# Altium footprint library SparkFun-RF.PCBLIB: 42 footprints (part 2 of 3)
Each footprint in its own frame and in the unit in brackets; x right, y up, seen from the top. Pads: shape width x height; smd on the part's side, far side on the other; paste and mask are expansions set on the pad; w line width, h text height; cw(c..) or ccw(c..) is an arc to the next point about the centre after c.
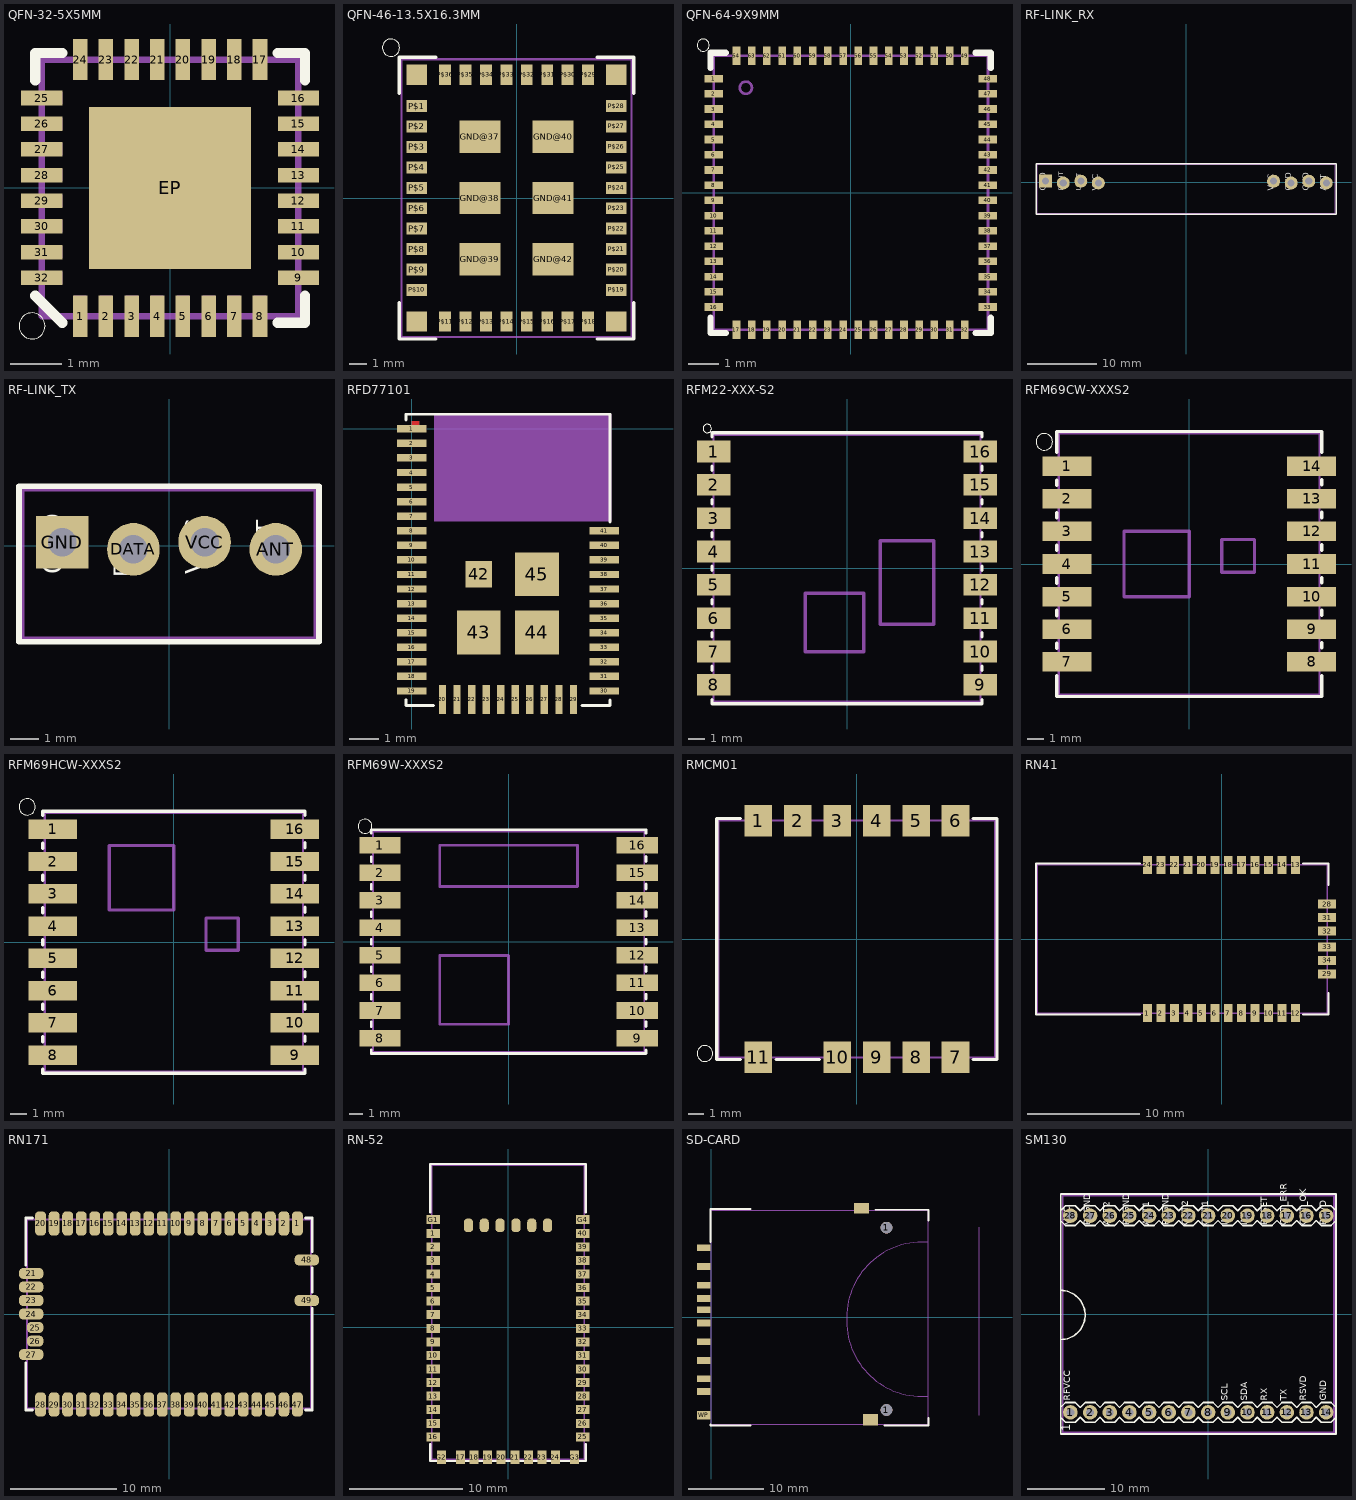
[diagram p1: the footprints below, top view; thin cyan lines are the x and y axes]

## QFN-32-5X5MM [mil]
pads (33):
  rect 11.2x31.5 smd: 1(-68.9,-98.43) 2(-49.21,-98.43) 3(-29.53,-98.43) 4(-9.84,-98.43) 5(9.84,-98.43) 6(29.53,-98.43) 7(49.21,-98.43) 8(68.9,-98.43) 17(68.9,98.43) 18(49.21,98.43) 19(29.53,98.43) 20(9.84,98.43) 21(-9.84,98.43) 22(-29.53,98.43) 23(-49.21,98.43) 24(-68.9,98.43)
  rect 31.5x11.2 smd: 9(98.43,-68.9) 10(98.43,-49.21) 11(98.43,-29.53) 12(98.43,-9.84) 13(98.43,9.84) 14(98.43,29.53) 15(98.43,49.21) 16(98.43,68.9) 25(-98.43,68.9) 26(-98.43,49.21) 27(-98.43,29.53) 28(-98.43,9.84) 29(-98.43,-9.84) 30(-98.43,-29.53) 31(-98.43,-49.21) 32(-98.43,-68.9)
  rect 124.02x124.02 smd: EP(0,0)
Top Overlay:
  circle w0: c-105.87,-105.87 r10
  lines w8: -103.43,-82.68 -82.68,-103.43 ; -103.43,82.68 -103.43,103.43 -82.68,103.43 ; 82.68,-103.43 103.43,-103.43 103.43,-82.68 ; 82.68,103.43 103.43,103.43 103.43,82.68
Top Paste:
  rectangle: -57.09,5.91 -5.91,57.09
  region: 5.91,57.09 5.91,5.91 57.09,5.91 57.09,57.09
  region: -5.91,-57.09 -5.91,-5.91 -57.09,-5.91 -57.09,-57.09
  region: 57.09,-5.91 5.91,-5.91 5.91,-57.09 57.09,-57.09
Mechanical 16:
  rectangle: -98.43,5.12 -82.68,14.57
  rectangle: -98.43,-14.57 -82.68,-5.12
  rectangle: -98.43,-34.25 -82.68,-24.8
  rectangle: -98.43,-53.94 -82.68,-44.49
  rectangle: -98.43,-73.62 -82.68,-64.17
  rectangle: -98.43,24.8 -82.68,34.25
  rectangle: -98.43,44.49 -82.68,53.94
  rectangle: -98.43,64.17 -82.68,73.62
  region: 5.12,98.43 5.12,82.68 14.57,82.68 14.57,98.43
  region: -14.57,98.43 -14.57,82.68 -5.12,82.68 -5.12,98.43
  region: -34.25,98.43 -34.25,82.68 -24.8,82.68 -24.8,98.43
  region: -53.94,98.43 -53.94,82.68 -44.49,82.68 -44.49,98.43
  region: -73.62,98.43 -73.62,82.68 -64.17,82.68 -64.17,98.43
  region: 24.8,98.43 24.8,82.68 34.25,82.68 34.25,98.43
  region: 44.49,98.43 44.49,82.68 53.94,82.68 53.94,98.43
  region: 64.17,98.43 64.17,82.68 73.62,82.68 73.62,98.43
  region: -5.12,-98.43 -5.12,-82.68 -14.57,-82.68 -14.57,-98.43
  region: 14.57,-98.43 14.57,-82.68 5.12,-82.68 5.12,-98.43
  region: 34.25,-98.43 34.25,-82.68 24.8,-82.68 24.8,-98.43
  region: 53.94,-98.43 53.94,-82.68 44.49,-82.68 44.49,-98.43
  region: 73.62,-98.43 73.62,-82.68 64.17,-82.68 64.17,-98.43
  region: -24.8,-98.43 -24.8,-82.68 -34.25,-82.68 -34.25,-98.43
  region: -44.49,-98.43 -44.49,-82.68 -53.94,-82.68 -53.94,-98.43
  region: -64.17,-98.43 -64.17,-82.68 -73.62,-82.68 -73.62,-98.43
  region: 98.43,-5.12 82.68,-5.12 82.68,-14.57 98.43,-14.57
  region: 98.43,14.57 82.68,14.57 82.68,5.12 98.43,5.12
  region: 98.43,34.25 82.68,34.25 82.68,24.8 98.43,24.8
  region: 98.43,53.94 82.68,53.94 82.68,44.49 98.43,44.49
  region: 98.43,73.62 82.68,73.62 82.68,64.17 98.43,64.17
  region: 98.43,-24.8 82.68,-24.8 82.68,-34.25 98.43,-34.25
  region: 98.43,-44.49 82.68,-44.49 82.68,-53.94 98.43,-53.94
  region: 98.43,-64.17 82.68,-64.17 82.68,-73.62 98.43,-73.62
  lines w5: -98.43,-98.43 98.43,-98.43 98.43,98.43 -98.43,98.43 -98.43,-98.43

## QFN-46-13.5X16.3MM [mm]
pads (46):
  rect 2.4x1.9 smd: GND@37(-2.15,3.6) GND@38(-2.15,0) GND@39(-2.15,-3.6) GND@40(2.15,3.6) GND@41(2.15,0) GND@42(2.15,-3.6)
  rect 1.2x1.2 smd: GND@43(-5.85,7.25) GND@44(-5.85,-7.25) GND@45(5.85,-7.25) GND@46(5.85,7.25)
  rect 1.2x0.7 smd: P$1(-5.85,5.4) P$2(-5.85,4.2) P$3(-5.85,3) P$4(-5.85,1.8) P$5(-5.85,0.6) P$6(-5.85,-0.6) P$7(-5.85,-1.8) P$8(-5.85,-3) P$9(-5.85,-4.2) P$10(-5.85,-5.4) P$19(5.85,-5.4) P$20(5.85,-4.2) P$21(5.85,-3) P$22(5.85,-1.8) P$23(5.85,-0.6) P$24(5.85,0.6) P$25(5.85,1.8) P$26(5.85,3) P$27(5.85,4.2) P$28(5.85,5.4)
  rect 0.7x1.2 smd: P$11(-4.2,-7.25) P$12(-3,-7.25) P$13(-1.8,-7.25) P$14(-0.6,-7.25) P$15(0.6,-7.25) P$16(1.8,-7.25) P$17(3,-7.25) P$18(4.2,-7.25) P$29(4.2,7.25) P$30(3,7.25) P$31(1.8,7.25) P$32(0.6,7.25) P$33(-0.6,7.25) P$34(-1.8,7.25) P$35(-3,7.25) P$36(-4.2,7.25)
Top Overlay:
  circle w0: c-7.375,8.829 r0.508
  lines w0.203: -6.877,-6.15 -6.877,-8.277 -4.75,-8.277 ; -6.877,6.15 -6.877,8.277 -4.75,8.277 ; 4.75,-8.277 6.877,-8.277 6.877,-6.15 ; 4.75,8.277 6.877,8.277 6.877,6.15
Mechanical 16:
  lines w0.127: -6.75,-8.15 6.75,-8.15 6.75,8.15 -6.75,8.15 -6.75,-8.15

## QFN-64-9X9MM [mm]
pads (64):
  rect 0.6x0.25 smd: 1(-4.5,3.75) 2(-4.5,3.25) 3(-4.5,2.75) 4(-4.5,2.25) 5(-4.5,1.75) 6(-4.5,1.25) 7(-4.5,0.75) 8(-4.5,0.25) 9(-4.5,-0.25) 10(-4.5,-0.75) 11(-4.5,-1.25) 12(-4.5,-1.75) 13(-4.5,-2.25) 14(-4.5,-2.75) 15(-4.5,-3.25) 16(-4.5,-3.75) 33(4.5,-3.75) 34(4.5,-3.25) 35(4.5,-2.75) 36(4.5,-2.25) 37(4.5,-1.75) 38(4.5,-1.25) 39(4.5,-0.75) 40(4.5,-0.25) 41(4.5,0.25) 42(4.5,0.75) 43(4.5,1.25) 44(4.5,1.75) 45(4.5,2.25) 46(4.5,2.75) 47(4.5,3.25) 48(4.5,3.75)
  rect 0.25x0.6 smd: 17(-3.75,-4.5) 18(-3.25,-4.5) 19(-2.75,-4.5) 20(-2.25,-4.5) 21(-1.75,-4.5) 22(-1.25,-4.5) 23(-0.75,-4.5) 24(-0.25,-4.5) 25(0.25,-4.5) 26(0.75,-4.5) 27(1.25,-4.5) 28(1.75,-4.5) 29(2.25,-4.5) 30(2.75,-4.5) 31(3.25,-4.5) 32(3.75,-4.5) 49(3.75,4.5) 50(3.25,4.5) 51(2.75,4.5) 52(2.25,4.5) 53(1.75,4.5) 54(1.25,4.5) 55(0.75,4.5) 56(0.25,4.5) 57(-0.25,4.5) 58(-0.75,4.5) 59(-1.25,4.5) 60(-1.75,4.5) 61(-2.25,4.5) 62(-2.75,4.5) 63(-3.25,4.5) 64(-3.75,4.5)
Top Overlay:
  circle w0: c-4.842,4.85 r0.2
  lines w0.203: -4.6,-4.1 -4.6,-4.6 -4.1,-4.6 ; -4.6,4.1 -4.6,4.6 -4.1,4.6 ; 4.1,-4.6 4.6,-4.6 4.6,-4.1 ; 4.1,4.6 4.6,4.6 4.6,4.1
Mechanical 16:
  circle w0.09: c-3.442,3.45 r0.2
  lines w0.09: -4.492,-4.5 4.508,-4.5 4.508,4.5 -4.492,4.5 -4.492,-4.5

## RF-LINK_RX [mil]
pads (8):
  round 74 hole 40: +5V@1(-500,-5) +5V@2(500,5) ANT(800,-5) DATA@1(-700,-5) DATA@2(-600,5) GND@2(600,-5) GND@3(700,5)
  rect 74x74 hole 40: GND@1(-800,5)
Top Overlay:
  lines w8: -855.39,-182.17 855.39,-182.17 855.39,103.43 -855.39,103.43 -855.39,-182.17
  text "GND" at -800,-50 h34
  text "DOUT" at -700,-50 h27.2
  text "LOUT" at -600,-50 h27.2
  text "VCC" at -500,-50 h34
  text "VCC" at 500,-50 h34
  text "GND" at 600,-50 h34
  text "GND" at 700,-50 h34
  text "ANT" at 800,-50 h34
Mechanical 16:
  rectangle: -510,-10 -490,10
  rectangle: -610,-10 -590,10
  rectangle: -710,-10 -690,10
  rectangle: -810,-10 -790,10
  rectangle: 790,-10 810,10
  rectangle: 690,-10 710,10
  rectangle: 590,-10 610,10
  rectangle: 490,-10 510,10
  lines w5: -850.39,-177.17 -850.39,98.43 850.39,98.43 850.39,-177.17 -850.39,-177.17

## RF-LINK_TX [mil]
pads (4):
  round 74 hole 40: ANT(150,-5) DATA(-50,-5) VCC(50,5)
  rect 74x74 hole 40: GND(-150,5)
Top Overlay:
  lines w8: -210.71,-134.92 -210.71,83.74 210.71,83.74 210.71,-134.92 -210.71,-134.92
  text "GND" at -150,-40 h27.2
  text "DIN" at -50,-45 h27.2
  text "VCC" at 50,-40 h27.2
  text "ANT" at 150,-40 h27.2
Mechanical 16:
  rectangle: 140,-10 160,10
  rectangle: 40,-10 60,10
  rectangle: -60,-10 -40,10
  rectangle: -160,-10 -140,10
  lines w5: -205.71,-129.92 -205.71,78.74 205.71,78.74 205.71,-129.92 -205.71,-129.92

## RFD77101 [mm]
pads (45):
  rect 1x0.254 smd: 1(0,0) 2(0,-0.5) 3(0,-1) 4(0,-1.5) 5(0,-2) 6(0,-2.5) 7(0,-3) 8(0,-3.5) 9(0,-4) 10(0,-4.5) 11(0,-5) 12(0,-5.5) 13(0,-6) 14(0,-6.5) 15(0,-7) 16(0,-7.5) 17(0,-8) 18(0,-8.5) 19(0,-9) 30(6.61,-9) 31(6.61,-8.5) 32(6.61,-8) 33(6.61,-7.5) 34(6.61,-7) 35(6.61,-6.5) 36(6.61,-6) 37(6.61,-5.5) 38(6.61,-5) 39(6.61,-4.5) 40(6.61,-4) 41(6.61,-3.5)
  rect 0.254x1 smd: 20(1.055,-9.29) 21(1.555,-9.29) 22(2.055,-9.29) 23(2.555,-9.29) 24(3.055,-9.29) 25(3.555,-9.29) 26(4.055,-9.29) 27(4.555,-9.29) 28(5.055,-9.29) 29(5.555,-9.29)
  rect 0.9x0.9 smd: 42(2.3,-4.99)
  rect 1.5x1.5 smd: 43(2.3,-6.99) 44(4.3,-6.99) 45(4.3,-4.99)
Top Layer:
  region: 0,0 0.254,0 0.254,0.254 0,0.254
Top Overlay:
  lines w0.1: -0.195,-9.301 -0.195,-9.5 0.749,-9.5 ; -0.195,0.305 -0.195,0.5 6.805,0.5 6.805,-3.2 ; 5.851,-9.5 6.805,-9.5 6.805,-9.302
Top Paste:
  circle w0: c2.337,-4.953 r0.305
  circle w0: c4.293,-4.953 r0.305
  circle w0: c4.318,-6.985 r0.305
  circle w0: c2.286,-6.96 r0.305
Top Solder:
  region: 0,0 0.254,0 0.254,0.254 0,0.254
Mechanical 27:
  rectangle: 0.762,-3.175 6.858,0.508
Mechanical 28:
  rectangle: 0.762,-3.175 6.858,0.508

## RFM22-XXX-S2 [mm]
pads (16):
  rect 2x1.3 smd: 1(-8,7) 2(-8,5) 3(-8,3) 4(-8,1) 5(-8,-1) 6(-8,-3) 7(-8,-5) 8(-8,-7) 9(8,-7) 10(8,-5) 11(8,-3) 12(8,-1) 13(8,1) 14(8,3) 15(8,5) 16(8,7)
Top Overlay:
  circle w0: c-8.382,8.382 r0.254
  lines w0.203: -8.1,-8.127 8.1,-8.127 8.1,-7.875 ; -8.1,-8.125 -8.1,-7.873 ; -8.1,-6.125 -8.1,-5.873 ; -8.1,-4.125 -8.1,-3.873 ; -8.1,-2.125 -8.1,-1.873 ; -8.1,-0.125 -8.1,0.127 ; -8.1,1.875 -8.1,2.127 ; -8.1,3.875 -8.1,4.127 ; -8.1,5.875 -8.1,6.127 ; -8.1,7.875 -8.1,8.127 8.1,8.127 ; 8.1,-6.127 8.1,-5.875 ; 8.1,-4.127 8.1,-3.875 ; 8.1,-2.127 8.1,-1.875 ; 8.1,-0.127 8.1,0.125 ; 8.1,1.873 8.1,2.125 ; 8.1,3.873 8.1,4.125 ; 8.1,5.873 8.1,6.125 ; 8.1,7.873 8.1,8.125
Mechanical 16:
  lines w0.127: -8,-8 -8,8 8,8 8,-8 -8,-8
  lines w0.203: -2.5,-5 1,-5 1,-1.5 -2.5,-1.5 -2.5,-5 ; 2,-3.35 2,1.65 5.2,1.65 5.2,-3.35 2,-3.35
  text "Crystal" at 4,-3 h1.24
  text "IC" at -1.2,-3.6 h1.24

## RFM69CW-XXXS2 [mm]
pads (14):
  rect 3x1.2 smd: 1(-7.5,6) 2(-7.5,4) 3(-7.5,2) 4(-7.5,0) 5(-7.5,-2) 6(-7.5,-4) 7(-7.5,-6) 8(7.5,-6) 9(7.5,-4) 10(7.5,-2) 11(7.5,0) 12(7.5,2) 13(7.5,4) 14(7.5,6)
Top Overlay:
  circle w0: c-8.889,7.492 r0.508
  lines w0.203: -8.127,-6.859 -8.127,-8.127 8.127,-8.127 8.127,-6.859 ; -8.127,-5.174 -8.127,-4.844 ; -8.127,-3.174 -8.127,-2.844 ; -8.127,-1.174 -8.127,-0.844 ; -8.127,0.826 -8.127,1.156 ; -8.127,2.826 -8.127,3.156 ; -8.127,4.826 -8.127,5.156 ; -8.127,6.859 -8.127,8.127 8.127,8.127 8.127,6.859 ; 8.127,-5.156 8.127,-4.826 ; 8.127,-3.156 8.127,-2.826 ; 8.127,-1.156 8.127,-0.826 ; 8.127,0.844 8.127,1.174 ; 8.127,2.844 8.127,3.174 ; 8.127,4.844 8.127,5.174
Mechanical 16:
  lines w0.127: -8,-8 8,-8 8,8 -8,8 -8,-8
  lines w0.203: -4,-2 -4,2 0,2 0,-2 -4,-2 ; 2,-0.5 2,1.5 4,1.5 4,-0.5 2,-0.5
  text "1" at -5.485,5.35 h1.97

## RFM69HCW-XXXS2 [mm]
pads (16):
  rect 3x1.2 smd: 1(-7.5,7) 2(-7.5,5) 3(-7.5,3) 4(-7.5,1) 5(-7.5,-1) 6(-7.5,-3) 7(-7.5,-5) 8(-7.5,-7) 9(7.5,-7) 10(7.5,-5) 11(7.5,-3) 12(7.5,-1) 13(7.5,1) 14(7.5,3) 15(7.5,5) 16(7.5,7)
Top Overlay:
  circle w0: c-9.089,8.392 r0.508
  lines w0.203: -8.127,-7.859 -8.127,-8.127 8.127,-8.127 8.127,-7.859 ; -8.127,-6.174 -8.127,-5.844 ; -8.127,-4.174 -8.127,-3.844 ; -8.127,-2.174 -8.127,-1.844 ; -8.127,-0.174 -8.127,0.156 ; -8.127,1.826 -8.127,2.156 ; -8.127,3.826 -8.127,4.156 ; -8.127,5.826 -8.127,6.156 ; -8.127,7.859 -8.127,8.127 8.127,8.127 8.127,7.859 ; 8.127,-6.156 8.127,-5.826 ; 8.127,-4.156 8.127,-3.826 ; 8.127,-2.156 8.127,-1.826 ; 8.127,-0.156 8.127,0.174 ; 8.127,1.844 8.127,2.174 ; 8.127,3.844 8.127,4.174 ; 8.127,5.844 8.127,6.174
Mechanical 16:
  lines w0.127: -8,-8 8,-8 8,8 -8,8 -8,-8
  lines w0.203: -4,2 -4,6 0,6 0,2 -4,2 ; 2,-0.5 2,1.5 4,1.5 4,-0.5 2,-0.5
  text "1" at -5.485,5.35 h1.08

## RFM69W-XXXS2 [mm]
pads (16):
  rect 3x1.2 smd: 1(-9.35,7) 2(-9.35,5) 3(-9.35,3) 4(-9.35,1) 5(-9.35,-1) 6(-9.35,-3) 7(-9.35,-5) 8(-9.35,-7) 9(9.35,-7) 10(9.35,-5) 11(9.35,-3) 12(9.35,-1) 13(9.35,1) 14(9.35,3) 15(9.35,5) 16(9.35,7)
Top Overlay:
  circle w0: c-10.435,8.381 r0.508
  lines w0.203: -9.977,-7.875 -9.977,-8.127 9.977,-8.127 9.977,-7.875 ; -9.977,-6.183 -9.977,-5.828 ; -9.977,-4.183 -9.977,-3.828 ; -9.977,-2.183 -9.977,-1.828 ; -9.977,-0.183 -9.977,0.172 ; -9.977,1.817 -9.977,2.172 ; -9.977,3.817 -9.977,4.172 ; -9.977,5.817 -9.977,6.172 ; -9.977,7.875 -9.977,8.127 9.977,8.127 9.977,7.875 ; 9.977,-6.172 9.977,-5.817 ; 9.977,-4.172 9.977,-3.817 ; 9.977,-2.172 9.977,-1.817 ; 9.977,-0.172 9.977,0.183 ; 9.977,1.828 9.977,2.183 ; 9.977,3.828 9.977,4.183 ; 9.977,5.828 9.977,6.183
Mechanical 16:
  lines w0.127: -9.85,-8 9.85,-8 9.85,8 -9.85,8 -9.85,-8
  lines w0.203: -5,-6 -5,-1 0,-1 0,-6 -5,-6 ; -5,4 -5,7 5,7 5,4 -5,4
  text "1" at -6.985,6.35 h1.08

## RMCM01 [mil]
pads (11):
  rect 70x80 smd: 1(-250,300) 2(-150,300) 3(-50,300) 4(50,300) 5(150,300) 6(250,300) 7(250,-300) 8(150,-300) 9(50,-300) 10(-50,-300) 11(-250,-300)
Top Overlay:
  circle w0: c-385,-290 r20
  lines w8: -295,-305 -355,-305 -355,305 -295,305 ; -205,-305 -95,-305 ; 295,-305 355,-305 355,305 295,305
Mechanical 16:
  lines w5: -350,-300 -350,300 350,300 350,-300 -350,-300

## RN41 [mil]
pads (30):
  rect 31.5x62.99 smd: 1(-259.84,-259.84) 2(-212.6,-259.84) 3(-165.35,-259.84) 4(-118.11,-259.84) 5(-70.87,-259.84) 6(-23.62,-259.84) 7(23.62,-259.84) 8(70.87,-259.84) 9(118.11,-259.84) 10(165.35,-259.84) 11(212.6,-259.84) 12(259.84,-259.84) 13(259.84,259.84) 14(212.6,259.84) 15(165.35,259.84) 16(118.11,259.84) 17(70.87,259.84) 18(23.62,259.84) 19(-23.62,259.84) 20(-70.87,259.84) 21(-118.11,259.84) 22(-165.35,259.84) 23(-212.6,259.84) 24(-259.84,259.84)
  rect 62.99x31.5 smd: 28(370.08,122.05) 29(370.08,-122.05) 31(370.08,74.8) 32(370.08,27.56) 33(370.08,-27.56) 34(370.08,-74.8)
Top Overlay:
  lines w8: -286.3,-264.84 -650.67,-264.84 -650.67,264.84 -286.3,264.84 ; 285.71,-264.84 375.08,-264.84 375.08,-190.47 ; 285.71,264.84 375.08,264.84 375.08,190.47
Mechanical 16:
  lines w5: -645.67,-259.84 370.08,-259.84 370.08,259.84 -645.67,259.84 -645.67,-259.84

## RN171 [mil]
pads (49):
  rrect75% 40x90 smd: 1(475,335) 2(425,335) 3(375,335) 4(325,335) 5(275,335) 6(225,335) 7(175,335) 8(125,335) 9(75,335) 10(25,335) 11(-25,335) 12(-75,335) 13(-125,335) 14(-175,335) 15(-225,335) 16(-275,335) 17(-325,335) 18(-375,335) 19(-425,335) 20(-475,335) 28(-475,-335) 29(-425,-335) 30(-375,-335) 31(-325,-335) 32(-275,-335) 33(-225,-335) 34(-175,-335) 35(-125,-335) 36(-75,-335) 37(-25,-335) 38(25,-335) 39(75,-335) 40(125,-335) 41(175,-335) 42(225,-335) 43(275,-335) 44(325,-335) 45(375,-335) 46(425,-335) 47(475,-335)
  rrect75% 90x40 smd: 21(-510,150) 22(-510,100) 23(-510,50) 24(-510,0) 27(-510,-150) 48(510,200) 49(510,50)
  rrect75% 60x40 smd: 25(-495,-50) 26(-495,-100)
Top Layer:
  lines w12: -518,0 -500,0
Top Overlay:
  lines w10: -530,-180 -530,-355 -505,-355 ; -530,180 -530,355 -505,355 ; 505,-355 530,-355 530,20 ; 505,355 530,355 530,230 ; 530,80 530,170
Mechanical 16:
  lines w8: -525,-350 -525,350 525,350 525,-350 -525,-350

## RN-52 [mil]
pads (50):
  rect 47.24x31.5 smd: 1(-259.84,327.95) 2(-259.84,280.71) 3(-259.84,233.46) 4(-259.84,186.22) 5(-259.84,138.98) 6(-259.84,91.73) 7(-259.84,44.49) 8(-259.84,-2.76) 9(-259.84,-50) 10(-259.84,-97.24) 11(-259.84,-144.49) 12(-259.84,-191.73) 13(-259.84,-238.98) 14(-259.84,-286.22) 15(-259.84,-333.46) 16(-259.84,-380.71) 25(259.84,-380.71) 26(259.84,-333.46) 27(259.84,-286.22) 28(259.84,-238.98) 29(259.84,-191.73) 30(259.84,-144.49) 31(259.84,-97.24) 32(259.84,-50) 33(259.84,-2.76) 34(259.84,44.49) 35(259.84,91.73) 36(259.84,138.98) 37(259.84,186.22) 38(259.84,233.46) 39(259.84,280.71) 40(259.84,327.95) G1(-259.84,375.2) G4(259.84,375.2)
  rect 31.5x47.24 smd: 17(-165.35,-451.57) 18(-118.11,-451.57) 19(-70.87,-451.57) 20(-23.62,-451.57) 21(23.62,-451.57) 22(70.87,-451.57) 23(118.11,-451.57) 24(165.35,-451.57) G2(-232.28,-451.57) G3(232.28,-451.18)
  rrect75% 31.5x47.24 smd: RFG1(-137.8,355.51) RFG2(-82.68,355.51) RFG3(-27.56,355.51) RFG4(27.56,355.51) RFG5(82.68,355.51) RFG6(137.8,355.51)
Top Overlay:
  lines w8: -270.75,-405.83 -270.75,-464.45 270.75,-464.45 270.75,-405.83 ; -270.75,400.55 -270.75,569.17 270.75,569.17 270.75,400.55
Mechanical 16:
  lines w5: -265.75,-459.45 -265.75,564.17 265.75,564.17 265.75,-459.45 -265.75,-459.45

## SD-CARD [mm]
pads (15):
  rect 1.8x0.9 smd: 1(-1,6.77) 2(-1,4.27) 3(-1,2.52) 4(-1,-0.73) 5(-1,-3.23) 6(-1,-5.73) 7(-1,-8.15) 8(-1,-9.85) 9(-1,9.27) CD(-1,1.02)
  round 1.55 hole 1.55: 1(23.3,-12.32) 1(23.3,11.94)
  rect 2x1.4 smd: SH@1(20,14.496)
  rect 2x1.527 smd: SH@2(21.15,-13.589)
  rect 1.8x1.1 smd: WP(-1,-13)
Top Overlay:
  lines w0.254: -0.095,-14.238 -0.095,-14.4 5.239,-14.4 ; -0.095,10.019 -0.095,14.418 5.239,14.418 ; 21.849,14.318 28.9,14.318 28.9,12.9 ; 23.011,-14.4 28.9,-14.4 28.9,-13.349
Mechanical 16:
  lines w0.127: 35.6,-13 35.6,12 ; 28.8,-10.5 28.8,10 ; 28.8,-10.5 28.8,-14.25 0,-14.25 0,14.25 28.8,14.25 28.8,10 ; 28.8,-10.5 28,-10.5 cw(c28,-0.5) 18,-0.5 18,0 cw(c28,0) 28,10 28.8,10
  text "card lock position" at 34.9,-9.3 h1.97

## SM130 [mil]
pads (28):
  round 74 hole 40: 1(-700,-500) 2(-600,-500) 3(-500,-500) 4(-400,-500) 5(-300,-500) 6(-200,-500) 7(-100,-500) 8(0,-500) 9(100,-500) 10(200,-500) 11(300,-500) 12(400,-500) 13(500,-500) 14(600,-500) 15(600,500) 16(500,500) 17(400,500) 18(300,500) 19(200,500) 20(100,500) 21(0,500) 22(-100,500) 23(-200,500) 24(-300,500) 25(-400,500) 26(-500,500) 27(-600,500) 28(-700,500)
Top Overlay:
  drawing of 179 lines, arcs and shapes, not listed
  text "1" at -700,-595 h42.5
  text "RFVCC" at -700,-440 h34
  text "GND" at 600,-440 h34
  text "RSVD" at 500,-440 h34
  text "TX" at 400,-440 h34
  text "RX" at 300,-440 h34
  text "SDA" at 200,-440 h34
  text "SCL" at 100,-440 h34
  text "RSVD" at 600,450 h34
  text "OUT_OK" at 500,450 h34
  text "OUT_ERR" at 400,450 h34
  text "RESET" at 300,450 h34
  text "IN1" at 200,450 h34
  text "IN2" at 100,450 h34
  text "OUT1" at 0,450 h34
  text "OUT2" at -100,450 h34
  text "RFGND" at -200,450 h34
  text "ANT1" at -300,450 h34
  text "RFGND" at -400,450 h34
  text "ANT2" at -500,450 h34
  text "RFGND" at -600,450 h34
  text "VCC" at -700,450 h34
Mechanical 16:
  rectangle: -110,-510 -90,-490
  rectangle: -210,-510 -190,-490
  rectangle: -310,-510 -290,-490
  rectangle: -410,-510 -390,-490
  rectangle: -510,-510 -490,-490
  rectangle: -610,-510 -590,-490
  rectangle: -710,-510 -690,-490
  rectangle: 590,-510 610,-490
  rectangle: 490,-510 510,-490
  rectangle: 390,-510 410,-490
  rectangle: 290,-510 310,-490
  rectangle: 190,-510 210,-490
  rectangle: 90,-510 110,-490
  rectangle: -10,-510 10,-490
  rectangle: 590,490 610,510
  region: -90,510 -110,510 -110,490 -90,490
  region: 10,510 -10,510 -10,490 10,490
  region: 110,510 90,510 90,490 110,490
  region: 210,510 190,510 190,490 210,490
  region: 310,510 290,510 290,490 310,490
  region: 410,510 390,510 390,490 410,490
  region: 510,510 490,510 490,490 510,490
  region: -690,510 -710,510 -710,490 -690,490
  region: -590,510 -610,510 -610,490 -590,490
  region: -490,510 -510,510 -510,490 -490,490
  region: -390,510 -410,510 -410,490 -390,490
  region: -290,510 -310,510 -310,490 -290,490
  region: -190,510 -210,510 -210,490 -190,490
  lines w8: -740,-602.5 640,-602.5 640,602.5 -740,602.5 -740,-602.5